# Altium footprint library 0201 (0603 Metric).PcbLib: 1 footprints
Each footprint in its own frame and in the unit in brackets; x right, y up, seen from the top. Pads: shape width x height; smd on the part's side, far side on the other; paste and mask are expansions set on the pad; w line width, h text height; cw(c..) or ccw(c..) is an arc to the next point about the centre after c.
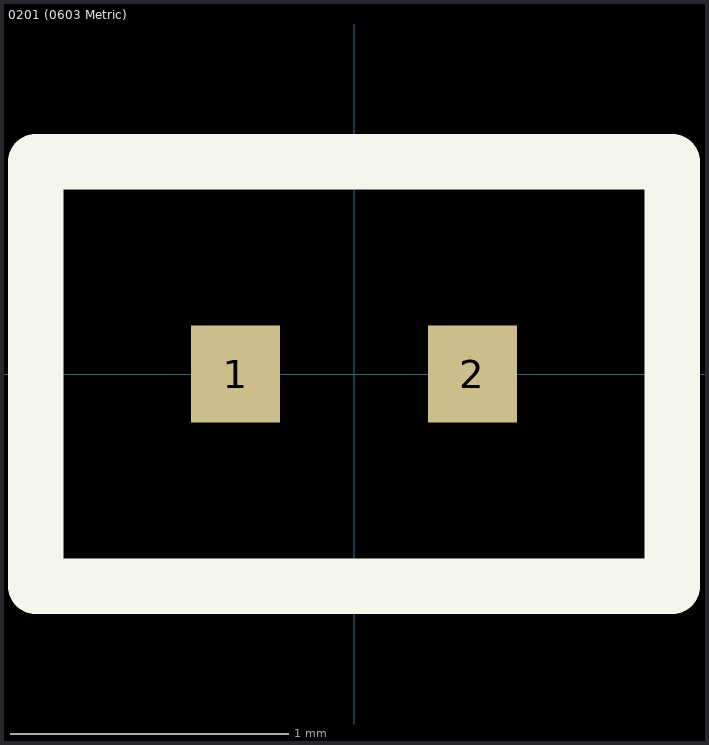
[diagram p0: the footprint, top view; thin cyan lines are the x and y axes]

## 0201 (0603 Metric) [mm]
pads (2):
  rect 0.32x0.35 smd: 1(-0.425,0) 2(0.425,0)
Top Overlay:
  lines w0.2: -1.143,-0.762 1.143,-0.762 1.143,0.762 -1.143,0.762 -1.143,0.267 -1.143,-0.762